# Altium schematic symbol library Diode.SchLib: 2 symbols
Pins are listed as number, name and electrical type; pins without a type are passive.

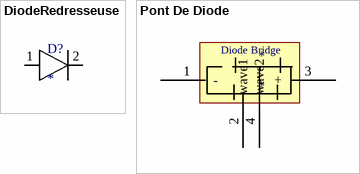
[diagram p0: symbols DiodeRedresseuse to Pont De Diode]

## DiodeRedresseuse
designator D?
footprint Diode MULTICOMP SS16
pins: 1, 2

## Pont De Diode
designator *
footprint B125R (Traversant Rond2A)
pins: 1 -, 2 wave1, 3 +, 4 wave2
text: Diode Bridge